# Altium footprint library Optocoupler.PcbLib: 1 footprints
Each footprint in its own frame and in the unit in brackets; x right, y up, seen from the top. Pads: shape width x height; smd on the part's side, far side on the other; paste and mask are expansions set on the pad; w line width, h text height; cw(c..) or ccw(c..) is an arc to the next point about the centre after c.
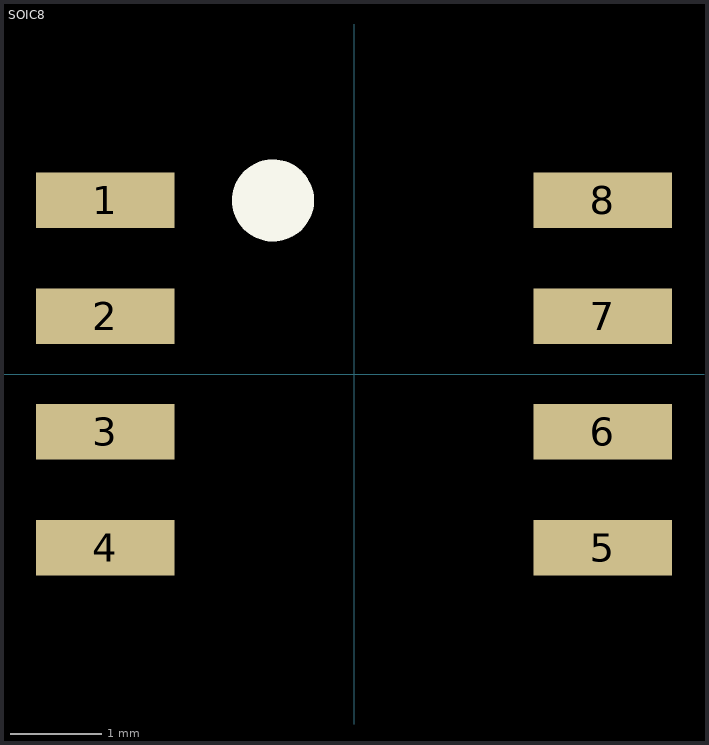
[diagram p0: the footprint, top view; thin cyan lines are the x and y axes]

## SOIC8 [mm]
pads (8):
  rect 1.52x0.61 smd: 1(-2.732,1.905) 2(-2.732,0.635) 3(-2.732,-0.635) 4(-2.732,-1.905) 5(2.732,-1.905) 6(2.732,-0.635) 7(2.732,0.635) 8(2.732,1.905)
Top Overlay:
  circle w0.5: c-0.889,1.905 r0.2
3D body: height 3.33, standoff -0.4, extent -3.003,-2.54 3.003,2.46